# Altium footprint library Pcb_TSAL_PL.PcbLib: 16 footprints
Each footprint in its own frame and in the unit in brackets; x right, y up, seen from the top. Pads: shape width x height; smd on the part's side, far side on the other; paste and mask are expansions set on the pad; w line width, h text height; cw(c..) or ccw(c..) is an arc to the next point about the centre after c.
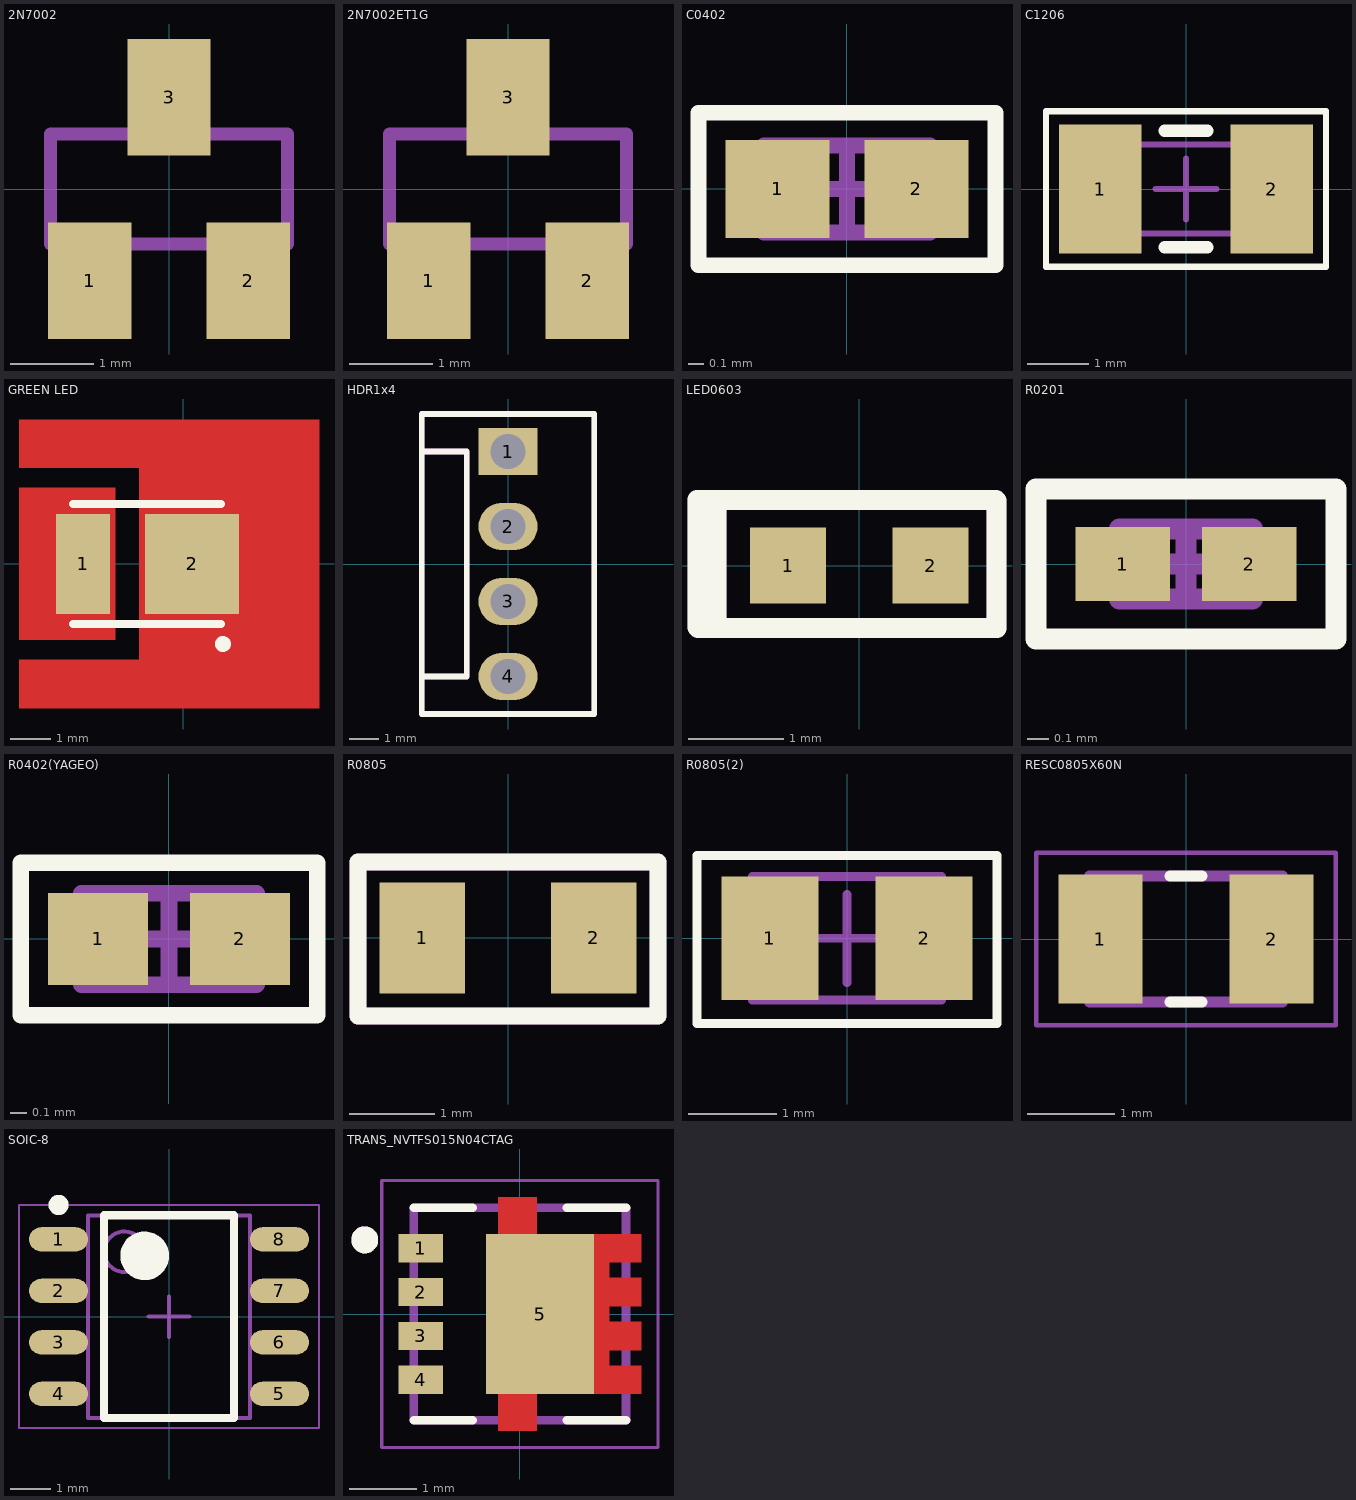
[diagram p0: the footprints below, top view; thin cyan lines are the x and y axes]

## 2N7002 [mm]
pads (3):
  rect 1x1.4 smd: 1(-0.95,-1.1) 2(0.95,-1.1) 3(0,1.1)
Mechanical 13:
  region: -0.711,-1.297 -1.17,-1.297 -1.17,-0.711 -0.711,-0.711
  region: 1.168,-1.297 0.712,-1.297 0.712,-0.711 1.168,-0.711
  region: 0.229,0.711 -0.229,0.711 -0.229,1.295 0.229,1.295
  lines w0.152: -1.422,-0.66 -1.422,0.66 1.422,0.66 1.422,-0.66 -1.422,-0.66
3D body "2N7002--3DModel-STEP-56544.STEP": height 1.16, standoff -0.09, extent -1.463,-1.4 1.463,1.4

## 2N7002ET1G [mm]
pads (3):
  rect 1x1.4 smd: 1(-0.95,-1.1) 2(0.95,-1.1) 3(0,1.1)
Mechanical 13:
  region: 0.229,0.711 -0.229,0.711 -0.229,1.295 0.229,1.295
  region: 1.168,-1.297 0.712,-1.297 0.712,-0.711 1.168,-0.711
  region: -0.711,-1.297 -1.17,-1.297 -1.17,-0.711 -0.711,-0.711
  lines w0.152: -1.422,-0.66 1.422,-0.66 1.422,0.66 -1.422,0.66 -1.422,-0.66
3D body "SOT-23_ONS.step": height 1.12, standoff 0, extent -1.498,-1.397 1.55,1.245

## C0402 [mm]
height 0.55
pads (2):
  rect 0.66x0.62 smd: 1(-0.44,0) 2(0.44,0)
Top Overlay:
  lines w0.1: -0.94,-0.483 0.94,-0.483 0.94,0.483 -0.94,0.483 -0.94,-0.483
Mechanical 13:
  lines w0.1: -0.525,-0.275 0.525,-0.275 0.525,0.275 -0.525,0.275 -0.525,-0.275
Mechanical 15:
  lines w0.05: -0.95,-0.5 0.95,-0.5 0.95,0.5 -0.95,0.5 -0.95,-0.5
  lines w0.1: -0.275,0 0.275,0 ; 0,-0.275 0,0.275
Mechanical 29:
  text "'.Designator'" at -0.743,-0.271 h0.5
3D body "C0402.step": height 0.55, standoff 0, extent -0.525,-0.275 0.525,0.275

## C1206 [mm]
height 0.95
pads (2):
  rect 1.35x2.1 smd: 1(-1.4,0) 2(1.4,0)
Top Overlay:
  lines w0.1: -2.286,-1.27 2.286,-1.27 2.286,1.27 -2.286,1.27 -2.286,-1.27
  lines w0.2: -0.35,-0.95 0.35,-0.95 ; -0.35,0.95 0.35,0.95
Mechanical 13:
  lines w0.1: -1.675,-0.725 1.675,-0.725 1.675,0.725 -1.675,0.725 -1.675,-0.725
Mechanical 15:
  lines w0.05: -2.3,-1.3 2.3,-1.3 2.3,1.3 -2.3,1.3 -2.3,-1.3
  lines w0.1: -0.5,0 0.5,0 ; 0,-0.5 0,0.5
Mechanical 29:
  text "'.Designator'" at -1.651,-0.635 h1.52
3D body "C1206.step": height 0.95, standoff 0, extent -1.675,-0.725 1.675,0.725

## GREEN LED [mm]
pads (2):
  rect 1.35x2.5 smd: 1(-2.5,0)
  rect 2.35x2.5 smd: 2(0.225,0)
Top Layer:
  region: -4.1,-3.6 -4.1,-2.4 -1.1,-2.4 -1.1,-1.25 -1.1,1.25 -1.1,2.4 -4.1,2.4 -4.1,3.6 3.4,3.6 3.4,-3.6
  region: -4.1,-1.9 -1.7,-1.9 -1.7,-1.25 -1.7,1.25 -1.7,1.9 -4.1,1.9
Top Overlay:
  circle w0.254: c1,-2 r0.071
  lines w0.2: -2.75,-1.5 0.95,-1.5 ; -2.75,1.5 0.95,1.5
3D body "Green LED.STEP": height 0.81, standoff 0.01, extent -2.65,-1.35 0.85,1.45

## HDR1x4 [mm]
pads (4):
  rect 2x1.6 hole 1.2: 1(0,3.81)
  oval 2x1.6 hole 1.2: 2(0,1.27) 3(0,-1.27) 4(0,-3.81)
Top Overlay:
  lines w0.2: -2.921,-3.81 -1.397,-3.81 -1.397,3.81 -2.921,3.81 ; -2.921,-5.08 2.921,-5.08 2.921,5.08 -2.921,5.08 -2.921,-5.08
Mechanical 29:
  lines w0.2: -2.921,-3.81 -1.397,-3.81 -1.397,3.81 -2.921,3.81 ; -2.921,-5.08 2.921,-5.08 2.921,5.08 -2.921,5.08 -2.921,-5.08
3D body "022272041.stp": height 11.07, standoff -4.19, extent -2.9,-5.08 2.9,5.08

## LED0603 [mm]
pads (2):
  rect 0.8x0.8 smd: 1(-0.75,0) 2(0.75,0)
Top Overlay:
  rectangle: -1.702,-0.66 -1.397,0.686
  rectangle: -1.71,-0.65 -1.405,0.697
  lines w0.2: -1.71,-0.65 1.44,-0.65 1.44,0.697 -1.71,0.697 -1.71,-0.65 ; -1.702,-0.66 1.448,-0.66 1.448,0.686 -1.702,0.686 -1.702,-0.66
Mechanical 29:
  rectangle: -1.702,-0.66 -1.397,0.686
  rectangle: -1.71,-0.65 -1.405,0.697
  lines w0.2: -1.71,-0.65 1.44,-0.65 1.44,0.697 -1.71,0.697 -1.71,-0.65 ; -1.702,-0.66 1.448,-0.66 1.448,0.686 -1.702,0.686 -1.702,-0.66
3D body "User Library-SMD LED 0603.step": height 0.4, standoff 0.01, extent -0.9,-0.4 0.7,0.4

## PCBComponent_1 [mm]

## PCBComponent_1 - duplicate [mm]

## R0201 [mm]
height 0.26
pads (2):
  rect 0.45x0.35 smd: 1(-0.3,0) 2(0.3,0)
Top Overlay:
  lines w0.1: -0.711,-0.356 -0.711,0.356 0.711,0.356 0.711,-0.356 -0.711,-0.356
Mechanical 13:
  lines w0.1: -0.315,-0.165 -0.315,0.165 0.315,0.165 0.315,-0.165 -0.315,-0.165
Mechanical 15:
  lines w0.05: -0.7,-0.35 -0.7,0.35 0.7,0.35 0.7,-0.35 -0.7,-0.35
  lines w0.1: -0.165,0 0.165,0 ; 0,-0.165 0,0.165
Mechanical 29:
  text "'.Designator'" at -0.443,-0.165 h0.3
3D body "RES_RMCF0201_STP.step": height 0.26, standoff 0, extent -0.345,-0.168 0.295,0.168

## R0402(YAGEO) [mm]
height 0.4
pads (2):
  rect 0.6x0.55 smd: 1(-0.425,0) 2(0.425,0)
Top Overlay:
  lines w0.1: -0.889,-0.457 0.889,-0.457 0.889,0.457 -0.889,0.457 -0.889,-0.457
Mechanical 13:
  lines w0.1: -0.525,-0.275 0.525,-0.275 0.525,0.275 -0.525,0.275 -0.525,-0.275
Mechanical 15:
  lines w0.05: -0.9,-0.45 0.9,-0.45 0.9,0.45 -0.9,0.45 -0.9,-0.45
  lines w0.1: -0.275,0 0.275,0 ; 0,-0.275 0,0.275
Mechanical 29:
  text "'.Designator'" at -0.737,-0.257 h0.45
3D body "R0402(YAGEO).step": height 0.4, standoff 0, extent -0.525,-0.275 0.525,0.275

## R0805 [mm]
pads (2):
  rect 1x1.3 smd: 1(-1,0) 2(1,0)
Top Overlay:
  lines w0.2: -1.753,-0.914 -1.753,-0.108 -1.753,0.17 -1.753,0.889 1.753,0.889 1.753,-0.914 -1.753,-0.914
Mechanical 29:
  lines w0.2: -1.753,-0.914 -1.753,-0.108 -1.753,0.17 -1.753,0.889 1.753,0.889 1.753,-0.914 -1.753,-0.914
  text "'.Designator'" at -1.297,-0.302 h0.7
3D body "CircuitWorks-RESISTOR 0805.step": height 0.47, standoff 0.01, extent -1,-0.63 1,0.63

## R0805(2) [mm]
height 0.65
pads (2):
  rect 1.1x1.4 smd: 1(-0.875,0) 2(0.875,0)
Top Overlay:
  lines w0.1: -1.702,-0.965 -1.702,0.94 1.702,0.94 1.702,-0.965 -1.702,-0.965
Mechanical 13:
  lines w0.1: -1.075,-0.7 -1.075,0.7 1.075,0.7 1.075,-0.7 -1.075,-0.7
Mechanical 15:
  lines w0.05: -1.7,-0.95 -1.7,0.95 1.7,0.95 1.7,-0.95 -1.7,-0.95
  lines w0.1: -0.5,0 0.5,0 ; 0,-0.5 0,0.5
Mechanical 29:
  text "'.Designator'" at -1.297,-0.302 h0.7
3D body "R0805(2).step": height 0.65, standoff 0, extent -1.075,-0.7 1.075,0.7

## RESC0805X60N [mm]
pads (2):
  rect 0.96x1.47 smd: 1(-0.978,0) 2(0.978,0)
Top Overlay:
  lines w0.127: -0.18,-0.72 0.18,-0.72 ; -0.18,0.72 0.18,0.72
Mechanical 13:
  lines w0.127: -1.1,-0.72 1.1,-0.72 1.1,0.72 -1.1,0.72 -1.1,-0.72
Mechanical 15:
  lines w0.05: -1.708,-0.983 1.708,-0.983 1.708,0.983 -1.708,0.983 -1.708,-0.983
3D body "YAG_CC0805_YAG.step": height 1.45, standoff 0, extent -1.105,-0.724 1.105,0.724

## SOIC-8 [mm] "SOIC, 8-Leads, Body 4.91x3.90mm, Pitch 1.27mm, IPC Medium Density"
height 1.75
pads (8):
  oval 1.45x0.6 smd: 1(-2.725,1.905) 2(-2.725,0.635) 3(-2.725,-0.635) 4(-2.725,-1.905) 5(2.725,-1.905) 6(2.725,-0.635) 7(2.725,0.635) 8(2.725,1.905)
Top Overlay:
  circle w0.25: c-2.725,2.755 r0.125
  circle w0.6: c-0.6,1.5 r0.3
  lines w0.2: -1.6,-2.5 -1.6,2.5 1.6,2.5 1.6,-2.5 -1.6,-2.5
Mechanical 13:
  circle w0.1: c-1.1,1.6 r0.5
  lines w0.1: -2,-2.5 -2,2.5 2,2.5 2,-2.5 -2,-2.5
Mechanical 15:
  lines w0.05: -3.7,-2.75 -3.7,2.75 3.7,2.75 3.7,-2.75 -3.7,-2.75
  lines w0.1: -0.5,0 0.5,0 ; 0,-0.5 0,0.5
3D body "SOIC127P600X175-8N.step": height 1.75, standoff 0, extent -2.997,-2.5 2.997,2.5

## TRANS_NVTFS015N04CTAG [mm]
pads (5):
  rect 0.66x0.42 smd: 1(-1.47,0.975) 2(-1.47,0.325) 3(-1.47,-0.325) 4(-1.47,-0.975)
  rect 1.6x2.37 smd paste-2 mask+0: 5(0.3,0)
Top Layer:
  region: 0.25,1.185 1.8,1.185 1.8,0.765 1.33,0.765 1.33,0.535 1.8,0.535 1.8,0.115 1.33,0.115 1.33,-0.115 1.8,-0.115 1.8,-0.535 1.33,-0.535 1.33,-0.765 1.8,-0.765 1.8,-1.185 0.25,-1.185 0.25,-1.73 -0.32,-1.73 -0.32,-1.185 -0.5,-1.185 -0.5,1.185 -0.32,1.185 -0.32,1.73 0.25,1.73
Top Overlay:
  circle w0.2: c-2.3,1.1 r0.1
  lines w0.127: -1.575,-1.575 -0.7,-1.575 ; -1.575,1.575 -0.7,1.575 ; 0.7,-1.575 1.575,-1.575 ; 0.7,1.575 1.575,1.575
Top Paste:
  region: 1.685,-1.305 1.255,-1.305 1.255,-0.645 1.685,-0.645
  region: 1.685,-0.655 1.255,-0.655 1.255,0.005 1.685,0.005
  region: 1.685,-0.005 1.255,-0.005 1.255,0.655 1.685,0.655
  region: 1.685,0.645 1.255,0.645 1.255,1.305 1.685,1.305
  region: 0.238,-1.753 -0.308,-1.753 -0.308,-1.172 0.238,-1.172
  region: 0.238,1.172 -0.308,1.172 -0.308,1.753 0.238,1.753
  region: 1.05,-0.51 -0.45,-0.51 -0.45,0.51 1.05,0.51
Top Solder:
  region: 0.305,1.235 1.85,1.235 1.85,0.71 1.38,0.71 1.38,0.59 1.85,0.59 1.85,0.065 1.38,0.065 1.38,-0.065 1.85,-0.065 1.85,-0.59 1.38,-0.59 1.38,-0.71 1.85,-0.71 1.85,-1.235 0.305,-1.235 0.305,-1.785 -0.375,-1.785 -0.375,-1.235 -0.55,-1.235 -0.55,1.235 -0.375,1.235 -0.375,1.785 0.305,1.785
Mechanical 13:
  circle w0.2: c-2.3,1.1 r0.1
  lines w0.127: -1.575,-1.575 1.575,-1.575 1.575,1.575 -1.575,1.575 -1.575,-1.575
Mechanical 15:
  lines w0.05: -2.05,-1.98 2.05,-1.98 2.05,1.98 -2.05,1.98 -2.05,-1.98
3D body "WDFN8_3P3X3P3_ONS.step": height 0.81, standoff 0, extent -1.702,-1.651 1.6,1.651